# Altium schematic symbol library rj.SchLib: 9 symbols
Pins are listed as number, name and electrical type; pins without a type are passive.

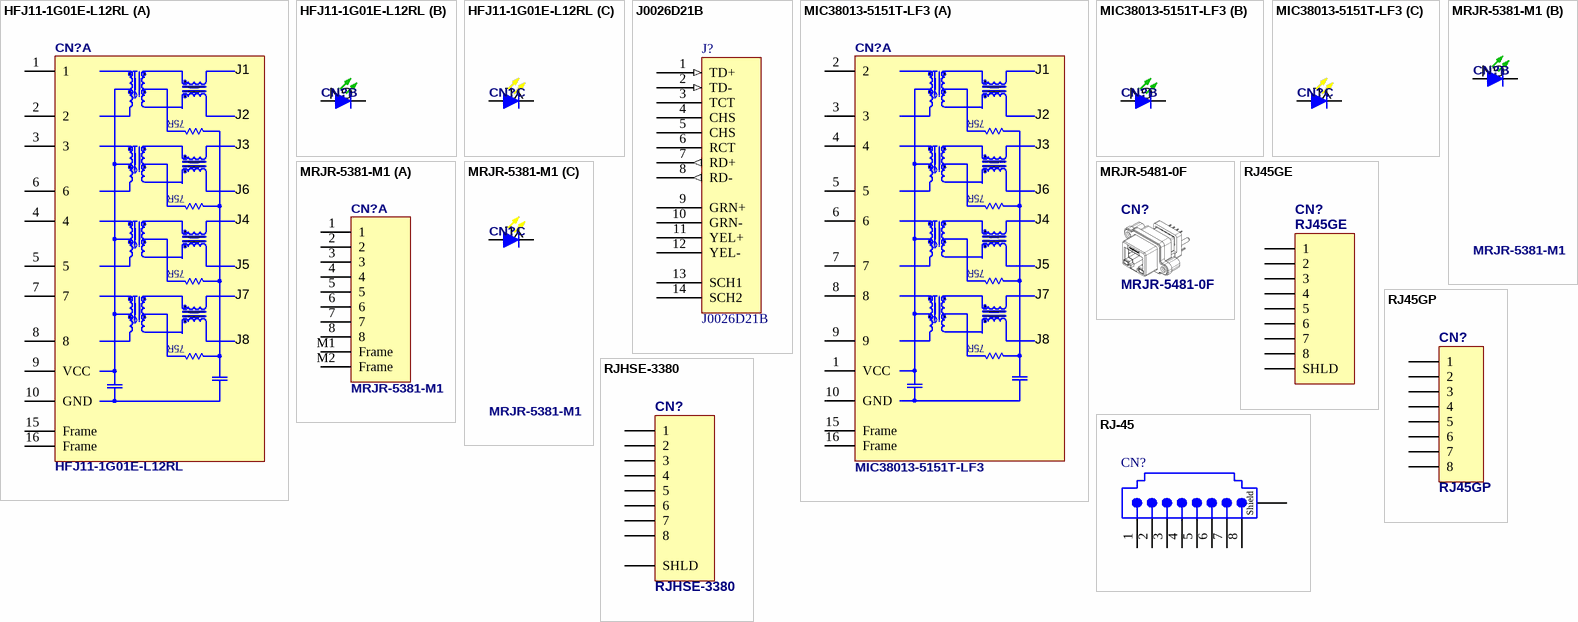
[diagram p0: symbols HFJ11-1G01E-L12RL to RJHSE-3380]

## HFJ11-1G01E-L12RL
designator CN?
AN: 23772; Param 4: THT; Trenz-Stock: Yes; HelpURL: B:\AD\adlib\datasheet\MIC38013-5151T-LF3
part A pins: 1, 2, 3, 4, 5, 6, 7, 8, 9 VCC (power), 10 GND (power), 15 Frame, 16 Frame
part B pins: 11 A, 12 K
part C pins: 13 A, 14 K
part A text: J1; 75R; J2; J3; J6; J4; J5; J7; J8
part B text: GN
part C text: YL

## J0026D21B
designator J?
10/100 Base-TX RJ45 1x1 Tab-DOWN with LEDs 8-pin (J0 series) integrated magnetics connector (ICM); Published: 11-Feb-2009
footprint J0026D21B (10/100 Base-TX RJ45 1x1 Tab-DOWN with LEDs 8-pin (J0 series) integrated magnetics connector (ICM))
pins: 1 TD+ (in), 2 TD- (in), 3 TCT, 4 CHS, 5 CHS, 6 RCT, 7 RD+ (out), 8 RD- (out), 9 GRN+, 10 GRN-, 11 YEL+, 12 YEL-, 13 SCH1 (power), 14 SCH2 (power)

## MIC38013-5151T-LF3
designator CN?
AN: 23772; Param 4: THT; Trenz-Stock: Yes; HelpURL: B:\AD\adlib\datasheet\MIC38013-5151T-LF3
footprint MIC38013-5151T-LF3
part A pins: 1 VCC (power), 2, 3, 4, 5, 6, 7, 8, 9, 10 GND (power), 15 Frame, 16 Frame
part B pins: 11 A, 12 K
part C pins: 13 A, 14 K
part A text: J1; 75R; J2; J3; J6; J4; J5; J7; J8
part B text: GN
part C text: YL

## MRJR-5381-M1
designator CN?
AN: 23772; Param 4: THT; Trenz-Stock: Yes; HelpURL: B:\AD\adlib\datasheet\MIC38013-5151T-LF3
footprint MRJR-5381-Mx
part A pins: 1, 2, 3, 4, 5, 6, 7, 8, M1 Frame, M2 Frame
part B pins: 11 K, 12 A
part C pins: 9 K, 10 A
part B text: GN
part C text: YL

## MRJR-5481-0F
designator CN?
footprint MRJR-5481-Mx-FRONT_PANEL

## RJ45GE
designator CN?
Right Angled, Shielded RJ45 Connector, 8PIN Socket, THT, 8p8c Pin Layout; Supplier 1: TME; Supplier Part Number 1: RJ45GE
footprint RJ45GE
pins: 1, 2, 3, 4, 5, 6, 7, 8, SHLD
1 alternate drawing of the same symbol

## RJ45GP
designator CN?
Straight RJ45 Connector, 8PIN Socket, THT, 8p8c Pin Layout; Supplier 1: TME; Supplier Part Number 1: RJ45GP
footprint RJ45GP (TE CONNECTIVITY 520259-4)
pins: 1, 2, 3, 4, 5, 6, 7, 8
1 alternate drawing of the same symbol

## RJ-45
designator CN?
Right Angle, Standard Profile, with Panel Ground Tab, External Shield PCB; Published: 13-Sep-2006; PackageReference: RJ-45
footprint RJ45
footprint RJ45SH
pins: 1, 2, 3, 4, 5, 6, 7, 8, MH1 Shield, MH2 Shield

## RJHSE-3380
designator CN?
Amphenol RJHSE-3380 Straight RJ45 Connector, 8PIN Socket, THT, 8p8c Pin Layout; Supplier 1: Farnell; Supplier 2: TME; Supplier Part Number 1: 1860573; Supplier Part Number 2: RJHSE-3380
footprint RJHSE-3380 (Amphenol RJHSE-3380)
pins: 1, 2, 3, 4, 5, 6, 7, 8, SHLD
1 alternate drawing of the same symbol